# EAGLE library part PCA9306 (library Romibo)
Dual bidirectional I2C bus and SMBus voltage-level translator. NXP and ONsemi both make pin compatible versions. DCT and DCU are TI packages DP1 and DC1 are NXP pin compatible parts
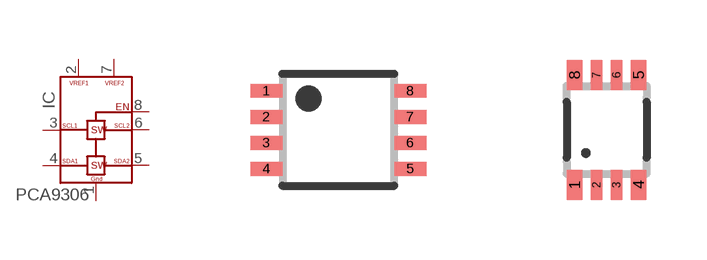
[diagram p4: symbol with the pads of TSSOP8/SOT505-2; footprints TSSOP8/SOT505-2, VSSOP8]

Designator prefix IC

## PCA9306DCT  [TSSOP8/SOT505-2]
1  GND  pwr
2  VREF1  in
3  SCL1
4  SDA1
5  SDA2
6  SCL2
7  VREF2  in
8  EN  in

## PCA9306DP1  [TSSOP8/SOT505-2]
Pads as for TSSOP8/SOT505-2

## PCA9306DC1  [VSSOP8]
Pads as for TSSOP8/SOT505-2

## PCA9306DCU  [VSSOP8]
Pads as for TSSOP8/SOT505-2

## Footprint TSSOP8/SOT505-2 (pad centres in mm)
3x3mm body 0.5mm leads 3x4mm footprint
smd 0.8 x 0.35: 1 -1.8,0.975; 2 -1.8,0.325; 3 -1.8,-0.325; 4 -1.8,-0.975; 5 1.8,-0.975; 6 1.8,-0.325; 7 1.8,0.325; 8 1.8,0.975

## Footprint VSSOP8 (pad centres in mm)
8 pin VSSOP/SOT765 2mm x 3.1mm footprint .5mm pitch .9mm thick footprint from: http://www.semiconductors.philips.com/acrobat_download/packages/footprint/SOT765-1_fp_reflow.pdf
smd 0.395 x 0.75: 1 -0.8,-1.375; 4 0.8,-1.375; 5 0.8,1.375; 8 -0.8,1.375
smd 0.295 x 0.75: 2 -0.25,-1.375; 3 0.25,-1.375; 6 0.25,1.375; 7 -0.25,1.375